# Altium footprint library JST_B4B-XH-A.PcbLib: 1 footprints
Each footprint in its own frame and in the unit in brackets; x right, y up, seen from the top. Pads: shape width x height; smd on the part's side, far side on the other; paste and mask are expansions set on the pad; w line width, h text height; cw(c..) or ccw(c..) is an arc to the next point about the centre after c.
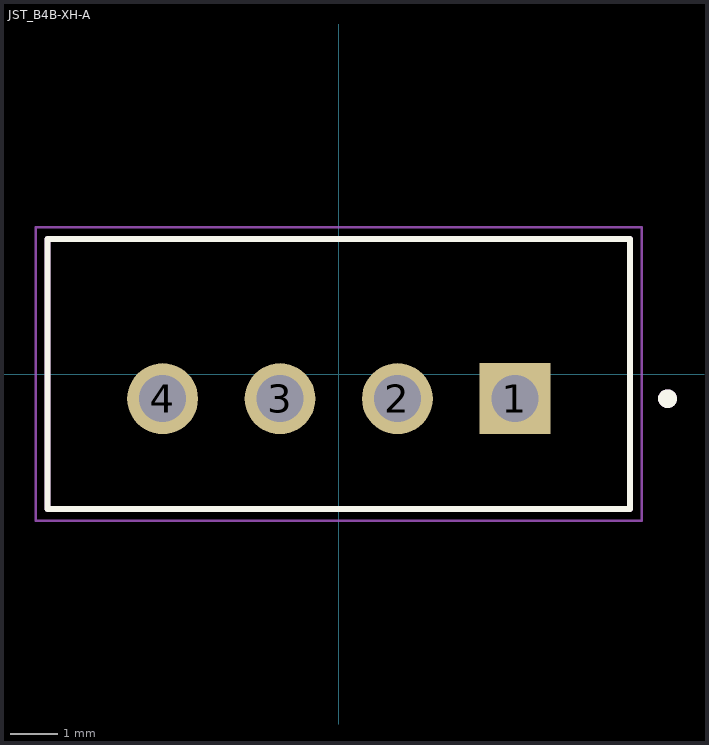
[diagram p0: the footprint, top view; thin cyan lines are the x and y axes]

## JST_B4B-XH-A [mm]
height 7
pads (4):
  rect 1.508x1.508 / inner round 1.508 / far side rect 1.508x1.508 hole 1: 1(3.75,-0.525)
  round 1.508 hole 1: 2(1.25,-0.525) 3(-1.25,-0.525) 4(-3.75,-0.525)
Top Overlay:
  circle w0.2: c7,-0.525 r0.1
  lines w0.127: -6.2,-2.875 6.2,-2.875 6.2,2.875 -6.2,2.875 -6.2,-2.875
Assembly Top:
  circle w0.2: c7,-0.525 r0.1
  lines w0.127: -6.2,-2.875 6.2,-2.875 6.2,2.875 -6.2,2.875 -6.2,-2.875
Courtyard Top:
  lines w0.05: -6.45,-3.125 6.45,-3.125 6.45,3.125 -6.45,3.125 -6.45,-3.125
3D body "step_temp.STEP": height 7, standoff -3.4, extent -6.2,-2.875 6.2,2.875